# EAGLE library part 649010221732 (library Wuerth_Elektronik_eiCan_07_Mini_Power_Connectors)
WR-MPC4 4.20mm Male Dual Row Vertical Header with Mounting Pegs, 10 Pins
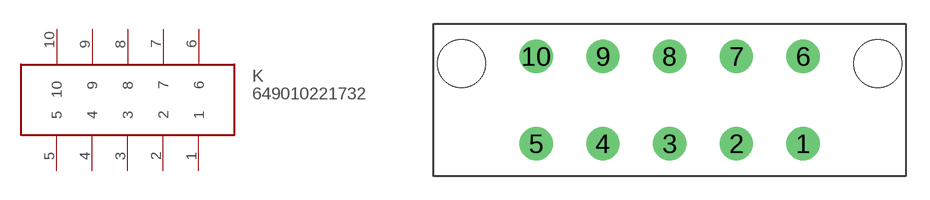
[diagram p42: symbol with the pads of 649010221732; footprint 649010221732]

Designator prefix K

## 649010221732  [649010221732]
1  1
2  2
3  3
4  4
5  5
6  6
7  7
8  8
9  9
10  10

## Footprint 649010221732 (pad centres in mm)
WR-MPC4 4.20mm Male Dual Row Vertical Header with Mounting Pegs, 10 Pins
drill 1.4 round: 1 0,-2.75; 2 -4.2,-2.75; 3 -8.4,-2.75; 4 -12.6,-2.75; 5 -16.8,-2.75; 6 0,2.75; 7 -4.2,2.75; 8 -8.4,2.75; 9 -12.6,2.75; 10 -16.8,2.75
hole 3 at -21.5,2.29
hole 3 at 4.7,2.29